# Altium schematic symbol library ICs-Analog.SchLib: 22 symbols
Pins are listed as number, name and electrical type; pins without a type are passive.

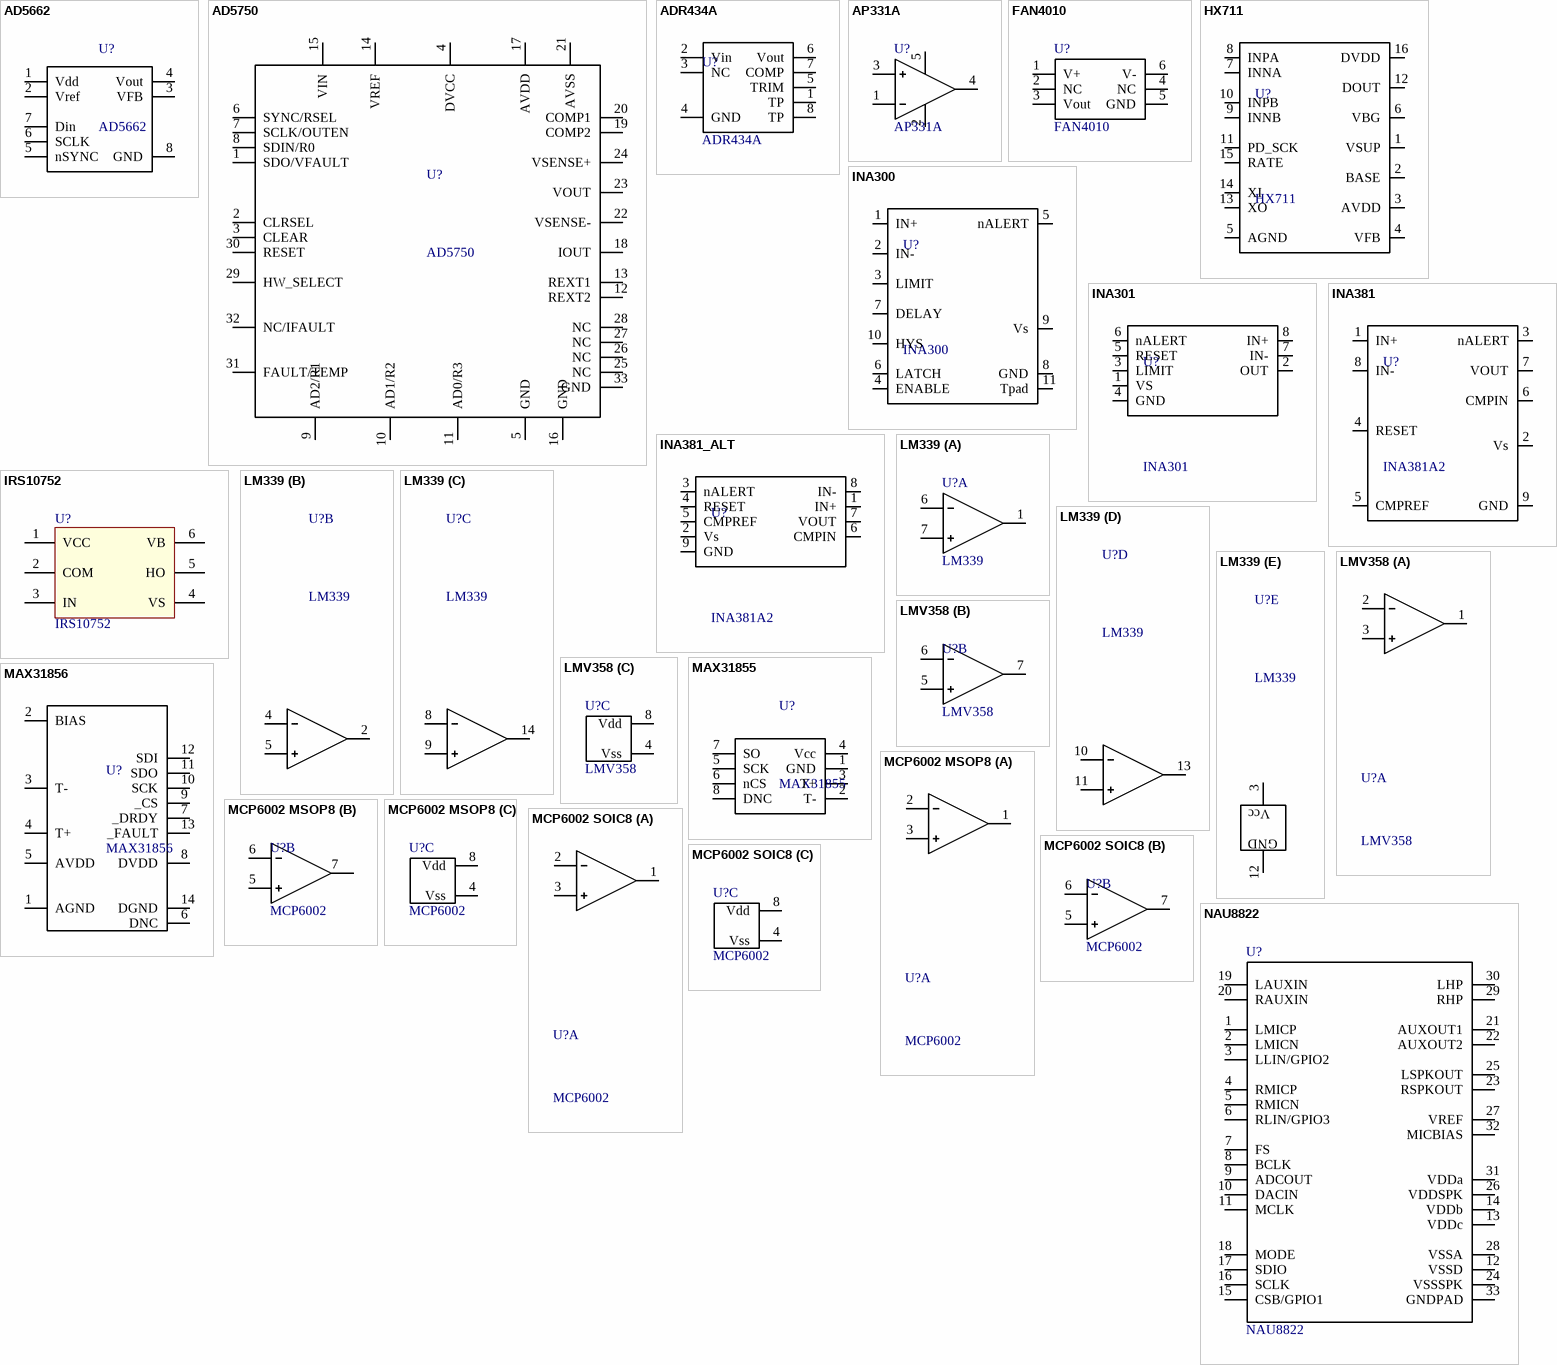
[diagram p0: symbols AD5662 to NAU8822]

## AD5662
designator U?
IC DAC 16BIT BUFF V-OUT SOT23-8; MANUFACTURER: Analog Devices; MANUFACTURER #: AD5662ARJZ-1500RL7; VOLTAGE: 2.7-5.5V; PART: AD5662; DISTRIBUTOR: DIGI-KEY; DISTRIBUTOR #: AD5662ARJZ-1500RL7CT-ND; COST: 4.79 @ 100pcs
footprint SOT-23-8
pins: 1 Vdd, 2 Vref, 3 VFB, 4 Vout, 5 nSYNC, 6 SCLK, 7 Din, 8 GND

## AD5750
designator U?
IC OPAMP INSTR 32LFCSP; MANUFACTURER: Analog Devices; MANUFACTURER #: AD5750ACPZ; PART: AD5750; DISTRIBUTOR: DIGI-KEY; DISTRIBUTOR #: AD5750ACPZ-ND; COST: 4.65 @ 100pcs
footprint QFN32 5X5mm (QFN, 32-Leads, Body 5.00x5.00mm, Pitch 0.50mm, Thermal Pad 3.10x3.10mm, IPC High Density)
pins: 1 SDO/VFAULT, 2 CLRSEL, 3 CLEAR, 4 DVCC, 5 GND, 6 SYNC/RSEL, 7 SCLK/OUTEN, 8 SDIN/R0, 9 AD2/R1, 10 AD1/R2, 11 AD0/R3, 12 REXT2, 13 REXT1, 14 VREF, 15 VIN, 16 GND, 17 AVDD, 18 IOUT, 19 COMP2, 20 COMP1, 21 AVSS, 22 VSENSE-, 23 VOUT, 24 VSENSE+, 25 NC, 26 NC, 27 NC, 28 NC, 29 HW_SELECT, 30 RESET, 31 FAULT/TEMP, 32 NC/IFAULT, 33 GND

## ADR434A
designator U?
IC VREF SERIES 4.096V 8SOIC; MANUFACTURER: Analog Devices; MANUFACTURER #: ADR434ARZ; TOLERANCE: 0.12%; VOLTAGE: 4.096V 30mA; PART: ADR434A; DISTRIBUTOR: DIGI-KEY; DISTRIBUTOR #: ADR434ARZ-ND; COST: 7.18 @ 100pcs
footprint SOIC8 150mil (SOIC, 8-Leads, Body 4.90x3.90mm, Pitch 1.27mm, IPC Medium Density)
pins: 1 TP, 2 Vin, 3 NC, 4 GND, 5 TRIM, 6 Vout, 7 COMP, 8 TP

## AP331A
designator U?
IC QUAD DIFF COMPARATOR 14 -SOIC; MANUFACTURER: TEXAS INSTRUMENTS; MANUFACTURER #: AP331AWG-7; PART: AP331A; DISTRIBUTOR: DIGI-KEY; DISTRIBUTOR #: AP331AWGDITR-ND; VALUE: AP331A
footprint SOT23-5
pins: 1 IN-, 2 GND (power) "Vcc", 3 IN+, 4 OUT, 5 VCC (power) "Vcc"

## FAN4010
designator U?
IC CURRENT SENSE 0.2% 6MLP; MANUFACTURER: FAIRCHILD; MANUFACTURER #: FAN4010IL6X_F113; PART: FAN4010; DISTRIBUTOR: DIGI-KEY; DISTRIBUTOR #: FAN4010IL6X_F113CT-ND; COST: 0.55 @ 100 pcs
footprint MLP-6
pins: 1 V+, 2 NC, 3 Vout, 4 NC, 5 GND, 6 V-

## HX711
designator U?
Load cell ADC, 24bit; MANUFACTURER: Avia Semiconductor; TOLERANCE: -NA-; EE_SPEC: 5V; MANUFACTURER #: HX711; PART: HX711; PART DESCRIPTION: Load cell ADC, 24bit; VALUE: HX711
footprint SOP-16L
pins: 1 VSUP (power), 2 BASE (power), 3 AVDD (power), 4 VFB (power), 5 AGND (power), 6 VBG (power), 7 INNA (power), 8 INPA (power), 9 INNB (power), 10 INPB (power), 11 PD_SCK (power), 12 DOUT (power), 13 XO (power), 14 XI (power), 15 RATE (power), 16 DVDD (power)

## INA300
designator U?
IC COMPARATOR BIDIR 10WSON; MANUFACTURER #: INA300AIDSQR; MANUFACTURER: TI; PART DESCRIPTION: Current Sense Regulator High/Low-Side 10-WSON (2x2); TOLERANCE: -NA-; EE_SPEC: Vcc 2.7-5.5V; Vcm 36V; DISTRIBUTOR #: 296-44476-2-ND; DISTRIBUTOR: dIGIKEY; PART: INA300; VALUE: INA300
pins: 1 IN+ (power), 2 IN- (power), 3 LIMIT (power), 4 ENABLE (power), 5 nALERT (power), 6 LATCH (power), 7 DELAY (power), 8 GND (power), 9 Vs (power), 10 HYS (power), 11 Tpad (power)

## INA301
designator U?
IC COMPARATOR SENSING AMP 8VSSOP; MANUFACTURER #: INA301A2IDGKR; MANUFACTURER: TI; TOLERANCE: -NA-; PART: INA301; PART DESCRIPTION: IC COMPARATOR SENSING AMP 8VSSOP; VALUE: INA301
footprint VSSOP-8 (0.65mm pitch)
pins: 1 VS (power), 2 OUT (power), 3 LIMIT (power), 4 GND (power), 5 RESET (power), 6 nALERT (power), 7 IN- (power), 8 IN+ (power)

## INA381
designator U?, comment INA381A2
IC COMPARATOR BIDIR 8WSON; MANUFACTURER #: INA381A2IDSGT; MANUFACTURER: TI; TOLERANCE: -NA-; EE_SPEC: Vcc 2.7-5.5V; Vcm 26V; DISTRIBUTOR #: 296-49078-2-ND; DISTRIBUTOR: Digikey; PART: INA381A2; VALUE: INA381A2
pins: 1 IN+ (power), 2 Vs (power), 3 nALERT (power), 4 RESET (power), 5 CMPREF (power), 6 CMPIN (power), 7 VOUT (power), 8 IN- (power), 9 GND (power)

## INA381_ALT
designator U?, comment INA381A2
IC COMPARATOR BIDIR 8WSON; MANUFACTURER #: INA381A2IDSGT; MANUFACTURER: TI; TOLERANCE: -NA-; EE_SPEC: Vcc 2.7-5.5V; Vcm 26V; DISTRIBUTOR #: 296-49078-2-ND; DISTRIBUTOR: Digikey; PART: INA381A2; VALUE: INA381A2
footprint WSON8_2x2mm
pins: 1 IN+ (power), 2 Vs (power), 3 nALERT (power), 4 RESET (power), 5 CMPREF (power), 6 CMPIN (power), 7 VOUT (power), 8 IN- (power), 9 GND (power)

## IRS10752
designator U?
IC GATE DRIVER 1CH 100V SOT23; MANUFACTURER #: IRS10752LTRPBF; MANUFACTURER: Infineon; PART DESCRIPTION: High-Side Gate Driver IC Non-Inverting SOT-23-6; TOLERANCE: -NA-; DISTRIBUTOR #: IRS10752LTRPBFTR-ND; DISTRIBUTOR: Digikey; PART: IC GATE DRIVER 1CH 100V SOT23; VALUE: IRS10752
footprint SOT23-6 SML
pins: 1 VCC, 2 COM, 3 IN, 4 VS, 5 HO, 6 VB

## LM339
designator U?
IC QUAD DIFF COMPARATOR 14 -SOIC; MANUFACTURER: TEXAS INSTRUMENTS; MANUFACTURER #: LM339ADR; PART: LM339; DISTRIBUTOR: DIGI-KEY; DISTRIBUTOR #: 296-6604-1-ND; COST: 0.22 @ 100pcs
footprint SOIC-14
part A pins: 1 OUT, 6 Vina-, 7 Vina+
part B pins: 2 Voutb, 4 Vinb-, 5 Vinv+
part C pins: 8 Vinb-, 9 Vinv+, 14 Voutb
part D pins: 10 Vinb-, 11 Vinv+, 13 Voutb
part E pins: 3 Vcc, 12 GND

## LMV358
designator U?
IC OPAMP GP 1MHZ RRO 8MSOP; MANUFACTURER: DIODES INC; MANUFACTURER #: LMV358M8G-13; PART: LMV358; DISTRIBUTOR: DIGI-KEY; DISTRIBUTOR #: LMV358M8G-13DICT-ND; COST: 0.30 @ 100pcs
footprint MSOP-8
part A pins: 1 OUT, 2 Vina-, 3 Vina+
part B pins: 5 Vinv+, 6 Vinb-, 7 Voutb
part C pins: 4 Vss, 8 Vdd

## MAX31855
designator U?
IC CONV THERMOCOUPLE-DGTL 8SOIC; MANUFACTURER: Maxim; MANUFACTURER #: MAX31855KASA+T; VOLTAGE: 3.3V; PART: MAX31855; DISTRIBUTOR: DIGI-KEY; DISTRIBUTOR #: MAX31855KASA+TCT-ND; COST: 4.78 @ 100PCS
footprint SOIC8 150mil (SOIC, 8-Leads, Body 4.90x3.90mm, Pitch 1.27mm, IPC Medium Density)
pins: 1 GND, 2 T-, 3 T+, 4 Vcc, 5 SCK, 6 nCS, 7 SO, 8 DNC

## MAX31856
designator U?
IC CONV THERMOCOUPLE 14TSSOP; MANUFACTURER: Maxim; MANUFACTURER #: MAX31856MUD; VOLTAGE: 3.3V; PART: MAX31856
footprint TSSOP-14L 65P640X110 (TSOP, 14-Leads, Body 5.00x4.40mm, Pitch 0.65mm, IPC High Density)
pins: 1 AGND, 2 BIAS, 3 T-, 4 T+, 5 AVDD, 6 DNC, 7 _DRDY, 8 DVDD, 9 _CS (power) "1", 10 SCK (power) "1", 11 SDO (power) "1", 12 SDI (power) "1", 13 _FAULT (power) "1", 14 DGND (power) "1"

## MCP6002 MSOP8
designator U?, comment MCP6002
IC OPAMP 1.8V 1MHZ DUAL 8-MSOP; MANUFACTURER: MICROCHIP; MANUFACTURER #: MCP6002-I/MS; PART: MCP6002; DISTRIBUTOR: DIGI-KEY; DISTRIBUTOR #: MCP6002-I/MS-ND; COST: 0.25 @ 100pcs
footprint MSOP-8
part A pins: 1 OUT, 2 Vina-, 3 Vina+
part B pins: 5 Vinv+, 6 Vinb-, 7 Voutb
part C pins: 4 Vss, 8 Vdd

## MCP6002 SOIC8
designator U?, comment MCP6002
IC OPAMP GP 1MHZ RRO 8SOIC; MANUFACTURER: MICROCHIP; MANUFACTURER #: MCP6002T-I/SN; PART: MCP6002; DISTRIBUTOR: DIGI-KEY; DISTRIBUTOR #: MCP6002T-I/SNCT-ND; COST: 0.25 @ 100pcs
footprint SOIC8 150mil (SOIC, 8-Leads, Body 4.90x3.90mm, Pitch 1.27mm, IPC Medium Density)
part A pins: 1 OUT, 2 Vina-, 3 Vina+
part B pins: 5 Vinv+, 6 Vinb-, 7 Voutb
part C pins: 4 Vss, 8 Vdd

## NAU8822
designator U?
IC CODEC AUDIO STEREO 32QFN; MANUFACTURER: NUVOTON; MANUFACTURER #: NAU8822AYG; PART: NAU8822; DISTRIBUTOR: DIGI-KEY; DISTRIBUTOR #: NAU8822AYG-ND; COST: 2.75 @ 100 pcs
footprint QFN-32-HB
pins: 1 LMICP, 2 LMICN, 3 LLIN/GPIO2, 4 RMICP, 5 RMICN, 6 RLIN/GPIO3, 7 FS, 8 BCLK, 9 ADCOUT, 10 DACIN, 11 MCLK, 12 VSSD, 13 VDDc, 14 VDDb, 15 CSB/GPIO1, 16 SCLK, 17 SDIO, 18 MODE, 19 LAUXIN, 20 RAUXIN, 21 AUXOUT1, 22 AUXOUT2, 23 RSPKOUT, 24 VSSSPK, 25 LSPKOUT, 26 VDDSPK, 27 VREF, 28 VSSA, 29 RHP, 30 LHP, 31 VDDa, 32 MICBIAS, 33 GNDPAD

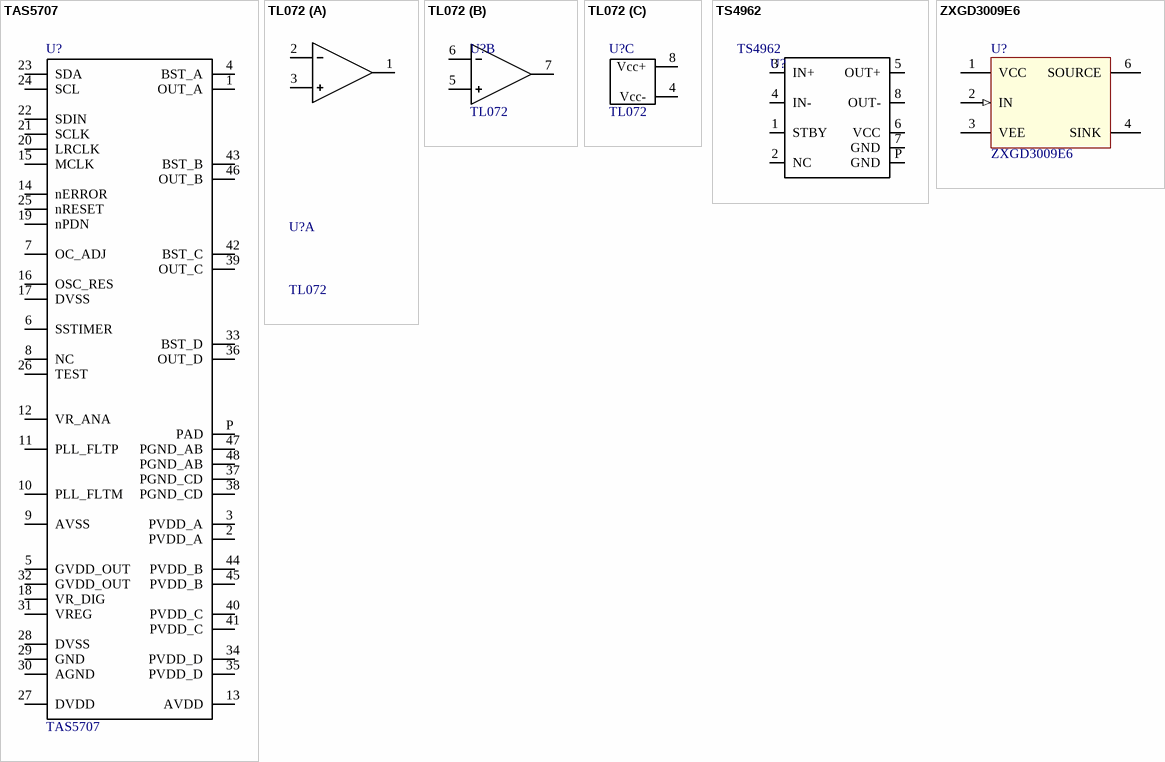
[diagram p1: symbols TAS5707 to ZXGD3009E6]

## TAS5707
designator U?
IC AMP AUDIO PWR 20W 48HTQFP; MANUFACTURER: TI; MANUFACTURER #: TAS5707APHPR; PART: TAS5707; DISTRIBUTOR: DIGI-KEY; DISTRIBUTOR #: 296-25484-1-ND; COST: 3.798 @ 100 pcs
footprint HTQFP-48-HB
pins: 1 OUT_A, 2 PVDD_A, 3 PVDD_A, 4 BST_A, 5 GVDD_OUT, 6 SSTIMER, 7 OC_ADJ, 8 NC, 9 AVSS, 10 PLL_FLTM, 11 PLL_FLTP, 12 VR_ANA, 13 AVDD, 14 nERROR, 15 MCLK, 16 OSC_RES, 17 DVSS, 18 VR_DIG, 19 nPDN, 20 LRCLK, 21 SCLK, 22 SDIN, 23 SDA, 24 SCL, 25 nRESET, 26 TEST, 27 DVDD, 28 DVSS, 29 GND, 30 AGND, 31 VREG, 32 GVDD_OUT, 33 BST_D, 34 PVDD_D, 35 PVDD_D, 36 OUT_D, 37 PGND_CD, 38 PGND_CD, 39 OUT_C, 40 PVDD_C, 41 PVDD_C, 42 BST_C, 43 BST_B, 44 PVDD_B, 45 PVDD_B, 46 OUT_B, 47 PGND_AB, 48 PGND_AB, P PAD

## TL072
designator U?
IC OPAMP JFET 3MHZ 8SOP; MANUFACTURER: Diodes Inc.; MANUFACTURER #: TL072SG-13; PART: TL072; DISTRIBUTOR: DIGI-KEY; DISTRIBUTOR #: TL072SG-13DICT-ND; COST: 0.25 @ 100pcs
part A pins: 1 OUT, 2 Vina-, 3 Vina+
part B pins: 5 Vinv+, 6 Vinb-, 7 Voutb
part C pins: 4 Vcc-, 8 Vcc+

## TS4962
designator U?
IC AMP AUDIO PWR 2.8W MONO 8DFN; MANUFACTURER #: TS4962IQT; MANUFACTURER: ST; PART DESCRIPTION: Amplifier IC 1-Channel (Mono) Class D 8-DFN (3x3); TOLERANCE: -NA-; EE_SPEC: 2.8W 2.4V-5.5V; DISTRIBUTOR #: 497-5993-1-ND; DISTRIBUTOR: Digikey; PART: IC AMP AUDIO PWR 2.8W MONO 8DFN; VALUE: TS4962
footprint DFN8_3X3
pins: 1 STBY (power), 2 NC (power), 3 IN+ (power), 4 IN- (power), 5 OUT+ (power), 6 VCC (power), 7 GND (power), 8 OUT- (power), P GND (power)

## ZXGD3009E6
designator U?
MOSFET DRVR 3A 1-OUT High Speed Non-Inv6-Pin SOT-26 T/R; MANUFACTURER #: ZXGD3009E6TA; MANUFACTURER: Diodes Incorporated; PART: IC GATE DRVR IGBT/MOSFET SOT23-6; PART DESCRIPTION: Low-Side Gate Driver IC Non-Inverting SOT-26; TOLERANCE: -NA-; EE_SPEC: 40V 2A; DISTRIBUTOR #: ZXGD3009E6TADITR-ND; DISTRIBUTOR: Digikey; VALUE: ZXGD3009E6
footprint SOT26P285X140-6L (SOT26, 6-Leads, Body 3.00x2.85mm, Pitch 0.95mm, IPC High Density)
pins: 1 VCC (power), 2 IN (in), 3 VEE (power), 4 SINK (power), 6 SOURCE (power)